# Altium footprint library RES_10k_5%_0.1W_0603.PcbLib: 1 footprints
Each footprint in its own frame and in the unit in brackets; x right, y up, seen from the top. Pads: shape width x height; smd on the part's side, far side on the other; paste and mask are expansions set on the pad; w line width, h text height; cw(c..) or ccw(c..) is an arc to the next point about the centre after c.
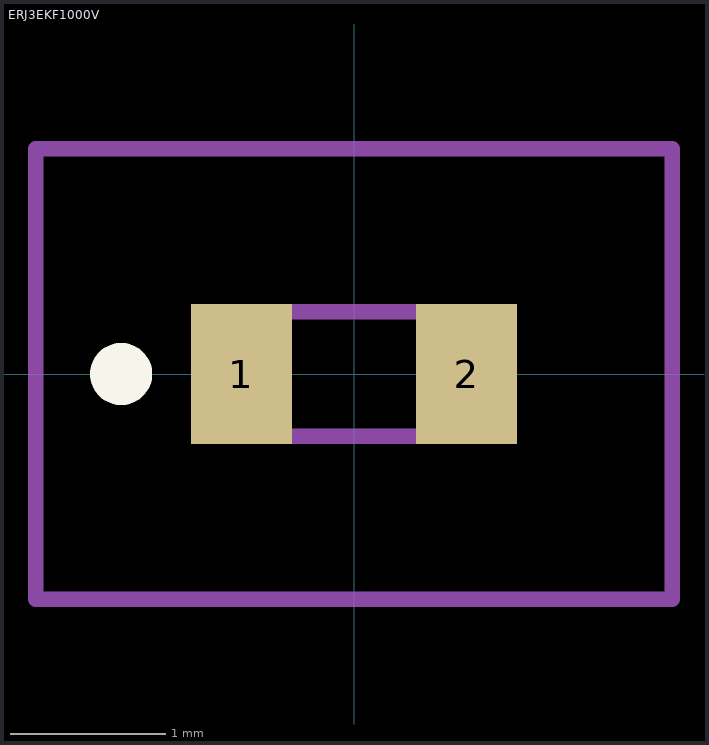
[diagram p0: the footprint, top view; thin cyan lines are the x and y axes]

## ERJ3EKF1000V [mm]
pads (2):
  rect 0.65x0.9 smd: 1(-0.725,0) 2(0.725,0)
Top Overlay:
  lines w0.2: -1.5,-0.1 ccw(c-1.5,0) -1.5,0.1 ccw(c-1.5,0) -1.5,-0.1
Mechanical 15:
  lines w0.1: -0.8,-0.4 -0.8,0.4 0.8,0.4 0.8,-0.4 -0.8,-0.4
Mechanical 20:
  lines w0.1: -2.05,-1.45 -2.05,1.45 2.05,1.45 2.05,-1.45 -2.05,-1.45
3D body "ERJ3GEYJ103V.stp": height 0.45, standoff 0, extent -0.8,-0.4 0.8,0.4